# EAGLE library part ADS5290 (library ADS5290)
Single +15 V/±5 V, 256-Position, I2C-Compatible Digital Potentiometer Source: http://www.analog.com/static/imported-files/data_sheets/AD5280_5282.pdf
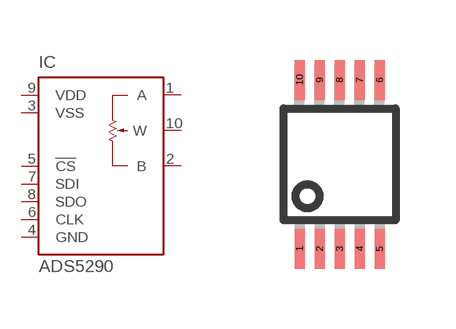
[diagram p0: symbol with the pads of MSOP10; footprint MSOP10]

Designator prefix IC

## ADS5290  [MSOP10]
1  A  pas
2  B  pas
3  VSS  pwr
4  GND  pwr
5  !CS  in
6  CLK  in
7  SDI  in
8  SDO  out
9  VDD  pwr
10  W  pas

## Footprint MSOP10 (pad centres in mm)
10-Lead Mini Small Outline Package [MSOP] (RM-10) Source: http://www.analog.com/UploadedFiles/Data_Sheets/35641221898805SSM2167_b.pdf COMPLIANT TO JEDEC STANDARDS MO-187BA
smd 0.25 x 1: 1 -1,-2.113; 2 -0.5,-2.113; 3 0,-2.113; 4 0.5,-2.113; 5 1,-2.113; 6 1,2.113; 7 0.5,2.113; 8 0,2.113; 9 -0.5,2.113; 10 -1,2.113